# Altium footprint library Winbond.PcbLib: 18 footprints (part 1 of 2)
Each footprint in its own frame and in the unit in brackets; x right, y up, seen from the top. Pads: shape width x height; smd on the part's side, far side on the other; paste and mask are expansions set on the pad; w line width, h text height; cw(c..) or ccw(c..) is an arc to the next point about the centre after c.
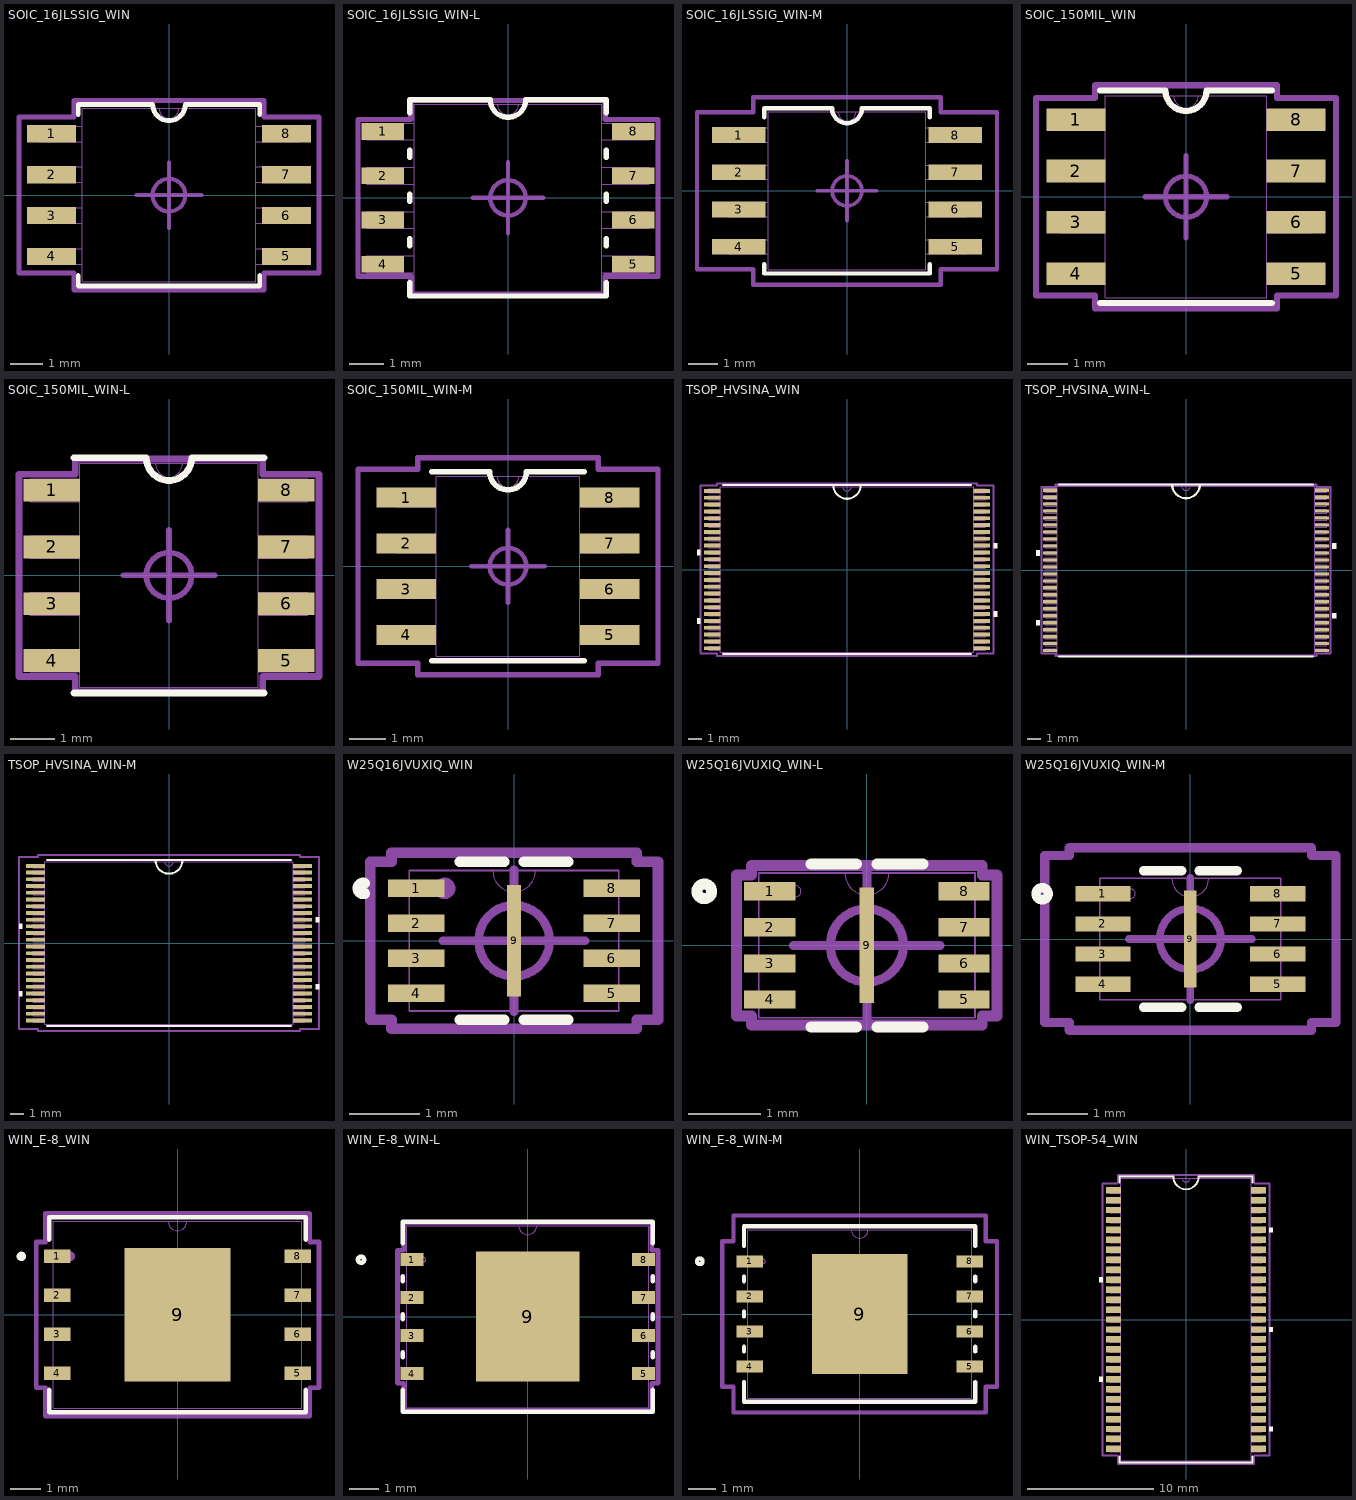
[diagram p0: the footprints below, top view; thin cyan lines are the x and y axes]

## SOIC_16JLSSIG_WIN [mil]
pads (8):
  rect 60x21 smd: 1(-143.5,75) 2(-143.5,25) 3(-143.5,-25) 4(-143.5,-75) 5(143.5,-75) 6(143.5,-25) 7(143.5,25) 8(143.5,75)
Top Overlay:
  lines w6: -111,-98.36 -111,-111 111,-111 111,-98.36 ; -111,98.36 -111,111 -20,111 ccw(c0,111) 20,111 111,111 111,98.36
Mechanical 13:
  lines w0: -12,106 ccw(c0,106) 12,106
  lines w1: -159.5,-84.5 -159.5,-65.5 -106,-65.5 -106,-84.5 -159.5,-84.5 ; -159.5,-34.5 -159.5,-15.5 -106,-15.5 -106,-34.5 -159.5,-34.5 ; -159.5,15.5 -159.5,34.5 -106,34.5 -106,15.5 -159.5,15.5 ; -159.5,65.5 -159.5,84.5 -106,84.5 -106,65.5 -159.5,65.5 ; -106,-106 106,-106 106,106 -106,106 -106,-106 ; 106,-84.5 106,-65.5 159.5,-65.5 159.5,-84.5 106,-84.5 ; 106,-34.5 106,-15.5 159.5,-15.5 159.5,-34.5 106,-34.5 ; 106,15.5 106,34.5 159.5,34.5 159.5,15.5 106,15.5 ; 106,65.5 106,84.5 159.5,84.5 159.5,65.5 106,65.5
Mechanical 15:
  circle w5: c0,0 r20
  lines w5: -40,0 40,0 ; 0,-40 0,40
  lines w6: -183.5,-95.5 -183.5,95.5 -116,95.5 -116,116 116,116 116,95.5 183.5,95.5 183.5,-95.5 116,-95.5 116,-116 -116,-116 -116,-95.5 -183.5,-95.5
3D body "SOIC_16JLSSIG_WIN.step": height 85.12, standoff 0, extent -159.49,-105.98 159.49,105.98

## SOIC_16JLSSIG_WIN-L [mil]
pads (8):
  rect 48x19 smd paste+0: 1(-141.5,75) 2(-141.5,25) 3(-141.5,-25) 4(-141.5,-75) 5(141.5,-75) 6(141.5,-25) 7(141.5,25) 8(141.5,75)
Top Overlay:
  lines w6: -111,-95.87 -111,-111 111,-111 111,-95.87 ; -111,-54.13 -111,-45.87 ; -111,-4.13 -111,4.13 ; -111,45.87 -111,54.13 ; -111,95.87 -111,111 -20,111 ccw(c0,111) 20,111 111,111 111,95.87 ; 111,-54.13 111,-45.87 ; 111,-4.13 111,4.13 ; 111,45.87 111,54.13
Mechanical 13:
  lines w0: -12,106 ccw(c0,106) 12,106
  lines w1: -159.5,-84.5 -106,-84.5 -106,-65.5 -159.5,-65.5 -159.5,-84.5 ; -159.5,-34.5 -106,-34.5 -106,-15.5 -159.5,-15.5 -159.5,-34.5 ; -159.5,15.5 -106,15.5 -106,34.5 -159.5,34.5 -159.5,15.5 ; -159.5,65.5 -106,65.5 -106,84.5 -159.5,84.5 -159.5,65.5 ; -106,-106 -106,106 106,106 106,-106 -106,-106 ; 106,-84.5 159.5,-84.5 159.5,-65.5 106,-65.5 106,-84.5 ; 106,-34.5 159.5,-34.5 159.5,-15.5 106,-15.5 106,-34.5 ; 106,15.5 159.5,15.5 159.5,34.5 106,34.5 106,15.5 ; 106,65.5 159.5,65.5 159.5,84.5 106,84.5 106,65.5
Mechanical 15:
  circle w5: c0,0 r20
  lines w5: -40,0 40,0 ; 0,-40 0,40
  lines w6: -169.5,-88.5 -110,-88.5 -110,-110 110,-110 110,-88.5 169.5,-88.5 169.5,88.5 110,88.5 110,110 -110,110 -110,88.5 -169.5,88.5 -169.5,-88.5
3D body "SOIC_16JLSSIG_WIN.step": height 85.12, standoff 0, extent -159.49,-105.98 159.49,105.98

## SOIC_16JLSSIG_WIN-M [mil]
pads (8):
  rect 72x21 smd: 1(-145.5,75) 2(-145.5,25) 3(-145.5,-25) 4(-145.5,-75) 5(145.5,-75) 6(145.5,-25) 7(145.5,25) 8(145.5,75)
Top Overlay:
  lines w6: -111,-98.6 -111,-111 111,-111 111,-98.6 ; -111,98.6 -111,111 -20,111 ccw(c0,111) 20,111 111,111 111,98.6
Mechanical 13:
  lines w0: -12,106 ccw(c0,106) 12,106
  lines w1: -159.5,-84.5 -106,-84.5 -106,-65.5 -159.5,-65.5 -159.5,-84.5 ; -159.5,-34.5 -106,-34.5 -106,-15.5 -159.5,-15.5 -159.5,-34.5 ; -159.5,15.5 -106,15.5 -106,34.5 -159.5,34.5 -159.5,15.5 ; -159.5,65.5 -106,65.5 -106,84.5 -159.5,84.5 -159.5,65.5 ; -106,-106 -106,106 106,106 106,-106 -106,-106 ; 106,-84.5 159.5,-84.5 159.5,-65.5 106,-65.5 106,-84.5 ; 106,-34.5 159.5,-34.5 159.5,-15.5 106,-15.5 106,-34.5 ; 106,15.5 159.5,15.5 159.5,34.5 106,34.5 106,15.5 ; 106,65.5 159.5,65.5 159.5,84.5 106,84.5 106,65.5
Mechanical 15:
  circle w5: c0,0 r20
  lines w5: -40,0 40,0 ; 0,-40 0,40
  lines w6: -201.5,-105.5 -126,-105.5 -126,-126 126,-126 126,-105.5 201.5,-105.5 201.5,105.5 126,105.5 126,126 -126,126 -126,105.5 -201.5,105.5 -201.5,-105.5
3D body "SOIC_16JLSSIG_WIN.step": height 85.12, standoff 0, extent -159.49,-105.98 159.49,105.98

## SOIC_150MIL_WIN [mil]
pads (8):
  rect 57.5x22 smd: 1(-107.25,75) 2(-107.25,25) 3(-107.25,-25) 4(-107.25,-75) 5(107.25,-75) 6(107.25,-25) 7(107.25,25) 8(107.25,75)
Top Overlay:
  lines w6: -83.5,-103.5 83.5,-103.5 ; -83.5,103.5 -20,103.5 ccw(c0,103.5) 20,103.5 83.5,103.5
Mechanical 13:
  lines w0: -12,98.5 ccw(c0,98.5) 12,98.5
  lines w1: -122,-85 -122,-65 -78.5,-65 -78.5,-85 -122,-85 ; -122,-35 -122,-15 -78.5,-15 -78.5,-35 -122,-35 ; -122,15 -122,35 -78.5,35 -78.5,15 -122,15 ; -122,65 -122,85 -78.5,85 -78.5,65 -122,65 ; -78.5,-98.5 78.5,-98.5 78.5,98.5 -78.5,98.5 -78.5,-98.5 ; 78.5,-85 78.5,-65 122,-65 122,-85 78.5,-85 ; 78.5,-35 78.5,-15 122,-15 122,-35 78.5,-35 ; 78.5,15 78.5,35 122,35 122,15 78.5,15 ; 78.5,65 78.5,85 122,85 122,65 78.5,65
Mechanical 15:
  circle w5: c0,0 r20
  lines w5: -40,0 40,0 ; 0,-40 0,40
  lines w6: -146,-96 -146,96 -88.5,96 -88.5,108.5 88.5,108.5 88.5,96 146,96 146,-96 88.5,-96 88.5,-108.5 -88.5,-108.5 -88.5,-96 -146,-96
3D body "SOIC_150MIL_WIN.step": height 69.09, standoff 0, extent -122.01,-98.5 122.01,98.5

## SOIC_150MIL_WIN-L [mil]
pads (8):
  rect 49.5x20 smd: 1(-103.25,75) 2(-103.25,25) 3(-103.25,-25) 4(-103.25,-75) 5(103.25,-75) 6(103.25,-25) 7(103.25,25) 8(103.25,75)
Top Overlay:
  lines w6: -83.5,-103.5 83.5,-103.5 ; -83.5,103.5 -20,103.5 ccw(c0,103.5) 20,103.5 83.5,103.5
Mechanical 13:
  lines w0: -12,98.5 ccw(c0,98.5) 12,98.5
  lines w1: -122,-85 -122,-65 -78.5,-65 -78.5,-85 -122,-85 ; -122,-35 -122,-15 -78.5,-15 -78.5,-35 -122,-35 ; -122,15 -122,35 -78.5,35 -78.5,15 -122,15 ; -122,65 -122,85 -78.5,85 -78.5,65 -122,65 ; -78.5,-98.5 78.5,-98.5 78.5,98.5 -78.5,98.5 -78.5,-98.5 ; 78.5,-85 78.5,-65 122,-65 122,-85 78.5,-85 ; 78.5,-35 78.5,-15 122,-15 122,-35 78.5,-35 ; 78.5,15 78.5,35 122,35 122,15 78.5,15 ; 78.5,65 78.5,85 122,85 122,65 78.5,65
Mechanical 15:
  circle w5: c0,0 r20
  lines w5: -40,0 40,0 ; 0,-40 0,40
  lines w6: -132,-89 -132,89 -82.5,89 -82.5,102.5 82.5,102.5 82.5,89 132,89 132,-89 82.5,-89 82.5,-102.5 -82.5,-102.5 -82.5,-89 -132,-89
3D body "SOIC_150MIL_WIN.step": height 69.09, standoff 0, extent -122.01,-98.5 122.01,98.5

## SOIC_150MIL_WIN-M [mil]
pads (8):
  rect 65.5x22 smd: 1(-111.25,75) 2(-111.25,25) 3(-111.25,-25) 4(-111.25,-75) 5(111.25,-75) 6(111.25,-25) 7(111.25,25) 8(111.25,75)
Top Overlay:
  lines w6: -83.5,-103.5 83.5,-103.5 ; -83.5,103.5 -20,103.5 ccw(c0,103.5) 20,103.5 83.5,103.5
Mechanical 13:
  lines w0: -12,98.5 ccw(c0,98.5) 12,98.5
  lines w1: -122,-85 -78.5,-85 -78.5,-65 -122,-65 -122,-85 ; -122,-35 -78.5,-35 -78.5,-15 -122,-15 -122,-35 ; -122,15 -78.5,15 -78.5,35 -122,35 -122,15 ; -122,65 -78.5,65 -78.5,85 -122,85 -122,65 ; -78.5,-98.5 -78.5,98.5 78.5,98.5 78.5,-98.5 -78.5,-98.5 ; 78.5,-85 122,-85 122,-65 78.5,-65 78.5,-85 ; 78.5,-35 122,-35 122,-15 78.5,-15 78.5,-35 ; 78.5,15 122,15 122,35 78.5,35 78.5,15 ; 78.5,65 122,65 122,85 78.5,85 78.5,65
Mechanical 15:
  circle w5: c0,0 r20
  lines w5: -40,0 40,0 ; 0,-40 0,40
  lines w6: -164,-106 -98.5,-106 -98.5,-118.5 98.5,-118.5 98.5,-106 164,-106 164,106 98.5,106 98.5,118.5 -98.5,118.5 -98.5,106 -164,106 -164,-106
3D body "SOIC_150MIL_WIN.step": height 69.09, standoff 0, extent -122.01,-98.5 122.01,98.5

## TSOP_HVSINA_WIN [mil]
pads (48):
  rect 47.5x11 smd: 1(-387.75,226.44) 2(-387.75,206.75) 3(-387.75,187.06) 4(-387.75,167.37) 5(-387.75,147.68) 6(-387.75,127.98) 7(-387.75,108.3) 8(-387.75,88.61) 9(-387.75,68.92) 10(-387.75,49.23) 11(-387.75,29.54) 12(-387.75,9.85) 13(-387.75,-9.85) 14(-387.75,-29.54) 15(-387.75,-49.23) 16(-387.75,-68.92) 17(-387.75,-88.61) 18(-387.75,-108.3) 19(-387.75,-127.98) 20(-387.75,-147.68) 21(-387.75,-167.37) 22(-387.75,-187.06) 23(-387.75,-206.75) 24(-387.75,-226.44) 25(387.75,-226.44) 26(387.75,-206.75) 27(387.75,-187.06) 28(387.75,-167.37) 29(387.75,-147.68) 30(387.75,-127.98) 31(387.75,-108.3) 32(387.75,-88.61) 33(387.75,-68.92) 34(387.75,-49.23) 35(387.75,-29.54) 36(387.75,-9.85) 37(387.75,9.85) 38(387.75,29.54) 39(387.75,49.23) 40(387.75,68.92) 41(387.75,88.61) 42(387.75,108.3) 43(387.75,127.98) 44(387.75,147.68) 45(387.75,167.37) 46(387.75,187.06) 47(387.75,206.75) 48(387.75,226.44)
Top Overlay:
  region: -421.5,56.73 -431.5,56.73 -431.5,41.73 -421.5,41.73
  region: -421.5,-140.18 -431.5,-140.18 -431.5,-155.18 -421.5,-155.18
  region: 421.5,-120.48 431.5,-120.48 431.5,-135.49 421.5,-135.49
  region: 421.5,76.42 431.5,76.42 431.5,61.41 421.5,61.41
  lines w6: -356.99,-243 356.99,-243 ; -356.99,243 356.99,243 ; -39.37,243 ccw(c0,243) 39.37,243
Mechanical 13:
  drawing of 197 lines, arcs and shapes, not listed
Mechanical 15:
  lines w6: -421.5,-241.94 -421.5,241.94 -374,241.94 -374,248 374,248 374,241.94 421.5,241.94 421.5,-241.94 374,-241.94 374,-248 -374,-248 -374,-241.94 -421.5,-241.94
3D body "TSOP_HVSINA_WIN.step": height 47.09, standoff 0, extent -397.52,-237.99 397.52,237.99

## TSOP_HVSINA_WIN-L [mil]
pads (48):
  rect 39.5x9 smd: 1(-383.75,226.44) 2(-383.75,206.75) 3(-383.75,187.06) 4(-383.75,167.37) 5(-383.75,147.68) 6(-383.75,127.98) 7(-383.75,108.3) 8(-383.75,88.61) 9(-383.75,68.92) 10(-383.75,49.23) 11(-383.75,29.54) 12(-383.75,9.85) 13(-383.75,-9.85) 14(-383.75,-29.54) 15(-383.75,-49.23) 16(-383.75,-68.92) 17(-383.75,-88.61) 18(-383.75,-108.3) 19(-383.75,-127.98) 20(-383.75,-147.68) 21(-383.75,-167.37) 22(-383.75,-187.06) 23(-383.75,-206.75) 24(-383.75,-226.44) 25(383.75,-226.44) 26(383.75,-206.75) 27(383.75,-187.06) 28(383.75,-167.37) 29(383.75,-147.68) 30(383.75,-127.98) 31(383.75,-108.3) 32(383.75,-88.61) 33(383.75,-68.92) 34(383.75,-49.23) 35(383.75,-29.54) 36(383.75,-9.85) 37(383.75,9.85) 38(383.75,29.54) 39(383.75,49.23) 40(383.75,68.92) 41(383.75,88.61) 42(383.75,108.3) 43(383.75,127.98) 44(383.75,147.68) 45(383.75,167.37) 46(383.75,187.06) 47(383.75,206.75) 48(383.75,226.44)
Top Overlay:
  region: 413.5,76.42 423.5,76.42 423.5,61.41 413.5,61.41
  region: 413.5,-120.48 423.5,-120.48 423.5,-135.49 413.5,-135.49
  region: -413.5,-140.18 -423.5,-140.18 -423.5,-155.18 -413.5,-155.18
  region: -413.5,56.73 -423.5,56.73 -423.5,41.73 -413.5,41.73
  lines w6: -358.9,-243 358.9,-243 ; -358.9,243 358.9,243 ; -39.37,243 ccw(c0,243) 39.37,243
Mechanical 13:
  drawing of 197 lines, arcs and shapes, not listed
Mechanical 15:
  lines w6: -407.5,-234.94 -368,-234.94 -368,-242 368,-242 368,-234.94 407.5,-234.94 407.5,234.94 368,234.94 368,242 -368,242 -368,234.94 -407.5,234.94 -407.5,-234.94
3D body "TSOP_HVSINA_WIN.step": height 47.09, standoff 0, extent -397.52,-237.99 397.52,237.99

## TSOP_HVSINA_WIN-M [mil]
pads (48):
  rect 55.5x11 smd: 1(-391.75,226.44) 2(-391.75,206.75) 3(-391.75,187.06) 4(-391.75,167.37) 5(-391.75,147.68) 6(-391.75,127.98) 7(-391.75,108.3) 8(-391.75,88.61) 9(-391.75,68.92) 10(-391.75,49.23) 11(-391.75,29.54) 12(-391.75,9.85) 13(-391.75,-9.85) 14(-391.75,-29.54) 15(-391.75,-49.23) 16(-391.75,-68.92) 17(-391.75,-88.61) 18(-391.75,-108.3) 19(-391.75,-127.98) 20(-391.75,-147.68) 21(-391.75,-167.37) 22(-391.75,-187.06) 23(-391.75,-206.75) 24(-391.75,-226.44) 25(391.75,-226.44) 26(391.75,-206.75) 27(391.75,-187.06) 28(391.75,-167.37) 29(391.75,-147.68) 30(391.75,-127.98) 31(391.75,-108.3) 32(391.75,-88.61) 33(391.75,-68.92) 34(391.75,-49.23) 35(391.75,-29.54) 36(391.75,-9.85) 37(391.75,9.85) 38(391.75,29.54) 39(391.75,49.23) 40(391.75,68.92) 41(391.75,88.61) 42(391.75,108.3) 43(391.75,127.98) 44(391.75,147.68) 45(391.75,167.37) 46(391.75,187.06) 47(391.75,206.75) 48(391.75,226.44)
Top Overlay:
  region: 429.5,76.42 439.5,76.42 439.5,61.41 429.5,61.41
  region: 429.5,-120.48 439.5,-120.48 439.5,-135.49 429.5,-135.49
  region: -429.5,-140.18 -439.5,-140.18 -439.5,-155.18 -429.5,-155.18
  region: -429.5,56.73 -439.5,56.73 -439.5,41.73 -429.5,41.73
  lines w6: -356.99,-243 356.99,-243 ; -356.99,243 356.99,243 ; -39.37,243 ccw(c0,243) 39.37,243
Mechanical 13:
  drawing of 197 lines, arcs and shapes, not listed
Mechanical 15:
  lines w6: -439.5,-251.94 -384,-251.94 -384,-258 384,-258 384,-251.94 439.5,-251.94 439.5,251.94 384,251.94 384,258 -384,258 -384,251.94 -439.5,251.94 -439.5,-251.94
3D body "TSOP_HVSINA_WIN.step": height 47.09, standoff 0, extent -397.52,-237.99 397.52,237.99

## W25Q16JVUXIQ_WIN [mil]
pads (9):
  rect 32x10 smd: 1(-55.06,29.53) 2(-55.06,9.84) 3(-55.06,-9.84) 4(-55.06,-29.53) 5(55.06,-29.53) 6(55.06,-9.84) 7(55.06,9.84) 8(55.06,29.53)
  rect 8x63 smd: 9(0,0)
Top Overlay:
  lines w6: -84.16,26.62 cw(c-84.9,29.53) -84.16,32.43 ; -30.56,-44.5 -5.62,-44.5 ; -30.56,44.5 -5.62,44.5 ; 5.62,-44.5 30.56,-44.5 ; 5.62,44.5 30.56,44.5
Mechanical 13:
  circle w6: c-39.06,29.53 r3
  lines w0: -12,39.5 ccw(c0,39.5) 12,39.5
  lines w1: -59,-39.5 -59,39.5 59,39.5 59,-39.5 -59,-39.5
Mechanical 15:
  circle w5: c0,0 r20
  lines w5: -40,0 40,0 ; 0,-40 0,40
  lines w6: -81.06,-44.53 -69,-44.53 -69,-49.5 69,-49.5 69,-44.53 81.06,-44.53 81.06,44.53 69,44.53 69,49.5 -69,49.5 -69,44.53 -81.06,44.53 -81.06,-44.53
3D body "W25Q16JVUXIQ_WIN.step": height 24.09, standoff 0, extent -59.06,-39.49 59.06,39.49

## W25Q16JVUXIQ_WIN-L [mil]
pads (9):
  rect 28x10 smd: 1(-53.06,29.53) 2(-53.06,9.84) 3(-53.06,-9.84) 4(-53.06,-29.53) 5(53.06,-29.53) 6(53.06,-9.84) 7(53.06,9.84) 8(53.06,29.53)
  rect 8x63 smd: 9(0,0)
Top Overlay:
  circle w6: c-88.74,29.53 r4
  lines w6: -30.56,-44.5 -5.62,-44.5 ; -30.56,44.5 -5.62,44.5 ; 5.62,-44.5 30.56,-44.5 ; 5.62,44.5 30.56,44.5
Mechanical 13:
  circle w0: c-39.06,29.53 r3
  lines w0: -12,39.5 ccw(c0,39.5) 12,39.5
  lines w1: -59,-39.5 -59,39.5 59,39.5 59,-39.5 -59,-39.5
Mechanical 15:
  circle w5: c0,0 r20
  lines w5: -40,0 40,0 ; 0,-40 0,40
  lines w6: -71.06,-38.53 -63,-38.53 -63,-43.5 63,-43.5 63,-38.53 71.06,-38.53 71.06,38.53 63,38.53 63,43.5 -63,43.5 -63,38.53 -71.06,38.53 -71.06,-38.53
3D body "W25Q16JVUXIQ_WIN.step": height 24.09, standoff 0, extent -59.06,-39.49 59.06,39.49

## W25Q16JVUXIQ_WIN-M [mil]
pads (9):
  rect 36x10 smd: 1(-57.06,29.53) 2(-57.06,9.84) 3(-57.06,-9.84) 4(-57.06,-29.53) 5(57.06,-29.53) 6(57.06,-9.84) 7(57.06,9.84) 8(57.06,29.53)
  rect 8x63 smd: 9(0,0)
Top Overlay:
  circle w6: c-96.74,29.53 r4
  lines w6: -30.56,-44.5 -5.62,-44.5 ; -30.56,44.5 -5.62,44.5 ; 5.62,-44.5 30.56,-44.5 ; 5.62,44.5 30.56,44.5
Mechanical 13:
  circle w0: c-39.06,29.53 r3
  lines w0: -12,39.5 ccw(c0,39.5) 12,39.5
  lines w1: -59,-39.5 -59,39.5 59,39.5 59,-39.5 -59,-39.5
Mechanical 15:
  circle w5: c0,0 r20
  lines w5: -40,0 40,0 ; 0,-40 0,40
  lines w6: -95.06,-54.53 -79,-54.53 -79,-59.5 79,-59.5 79,-54.53 95.06,-54.53 95.06,54.53 79,54.53 79,59.5 -79,59.5 -79,54.53 -95.06,54.53 -95.06,-54.53
3D body "W25Q16JVUXIQ_WIN.step": height 24.09, standoff 0, extent -59.06,-39.49 59.06,39.49

## WIN_E-8_WIN [mil]
pads (9):
  rect 34x17 smd: 1(-154.5,75) 2(-154.5,25) 3(-154.5,-25) 4(-154.5,-75) 5(154.5,-75) 6(154.5,-25) 7(154.5,25) 8(154.5,75)
  rect 136x171 smd: 9(0,0)
Top Overlay:
  circle w6: c-200.5,75 r3
  lines w6: -164.5,-96.6 -164.5,-125 164.5,-125 164.5,-96.6 ; -164.5,96.6 -164.5,125 164.5,125 164.5,96.6
Top Paste:
  region: -3.94,81.56 -64.06,81.56 -64.06,32.44 -3.94,32.44
  region: -3.94,24.56 -64.06,24.56 -64.06,-24.56 -3.94,-24.56
  region: -3.94,-32.44 -64.06,-32.44 -64.06,-81.56 -3.94,-81.56
  region: 64.06,81.56 3.94,81.56 3.94,32.44 64.06,32.44
  region: 64.06,24.56 3.94,24.56 3.94,-24.56 64.06,-24.56
  region: 64.06,-32.44 3.94,-32.44 3.94,-81.56 64.06,-81.56
Mechanical 13:
  circle w6: c-137.5,75 r3
  lines w0: -12,120 ccw(c0,120) 12,120
  lines w1: -159.5,-120 159.5,-120 159.5,120 -159.5,120 -159.5,-120
Mechanical 15:
  circle w5: c0,0 r20
  lines w5: -40,0 40,0 ; 0,-40 0,40
  lines w6: -181.5,-93.5 -181.5,93.5 -169.5,93.5 -169.5,130 169.5,130 169.5,93.5 181.5,93.5 181.5,-93.5 169.5,-93.5 169.5,-130 -169.5,-130 -169.5,-93.5 -181.5,-93.5
3D body "WIN_E-8_WIN.step": height 31.1, standoff 0, extent -159.49,-120 159.49,120

## WIN_E-8_WIN-L [mil]
pads (9):
  rect 30x17 smd: 1(-152.5,75) 2(-152.5,25) 3(-152.5,-25) 4(-152.5,-75) 5(152.5,-75) 6(152.5,-25) 7(152.5,25) 8(152.5,75)
  rect 136x171 smd: 9(0,0)
Top Overlay:
  circle w6: c-219.5,75 r4
  lines w6: -164.5,-96.6 -164.5,-125 164.5,-125 164.5,-96.6 ; -164.5,-53.4 -164.5,-46.6 ; -164.5,-3.4 -164.5,3.4 ; -164.5,46.6 -164.5,53.4 ; -164.5,96.6 -164.5,125 164.5,125 164.5,96.6 ; 164.5,-53.4 164.5,-46.6 ; 164.5,-3.4 164.5,3.4 ; 164.5,46.6 164.5,53.4
Top Paste:
  region: -3.94,81.56 -64.06,81.56 -64.06,32.44 -3.94,32.44
  region: -3.94,24.56 -64.06,24.56 -64.06,-24.56 -3.94,-24.56
  region: -3.94,-32.44 -64.06,-32.44 -64.06,-81.56 -3.94,-81.56
  region: 64.06,81.56 3.94,81.56 3.94,32.44 64.06,32.44
  region: 64.06,24.56 3.94,24.56 3.94,-24.56 64.06,-24.56
  region: 64.06,-32.44 3.94,-32.44 3.94,-81.56 64.06,-81.56
Mechanical 13:
  circle w0: c-137.5,75 r3
  lines w0: -12,120 ccw(c0,120) 12,120
  lines w1: -159.5,-120 159.5,-120 159.5,120 -159.5,120 -159.5,-120
Mechanical 15:
  circle w5: c0,0 r20
  lines w5: -40,0 40,0 ; 0,-40 0,40
  lines w6: -171.5,-87.5 -171.5,87.5 -163.5,87.5 -163.5,124 163.5,124 163.5,87.5 171.5,87.5 171.5,-87.5 163.5,-87.5 163.5,-124 -163.5,-124 -163.5,-87.5 -171.5,-87.5
3D body "WIN_E-8_WIN.step": height 31.1, standoff 0, extent -159.49,-120 159.49,120

## WIN_E-8_WIN-M [mil]
pads (9):
  rect 38x17 smd: 1(-156.5,75) 2(-156.5,25) 3(-156.5,-25) 4(-156.5,-75) 5(156.5,-75) 6(156.5,-25) 7(156.5,25) 8(156.5,75)
  rect 136x171 smd: 9(0,0)
Top Overlay:
  circle w6: c-227.5,75 r4
  lines w6: -164.5,-96.6 -164.5,-125 164.5,-125 164.5,-96.6 ; -164.5,-53.4 -164.5,-46.6 ; -164.5,-3.4 -164.5,3.4 ; -164.5,46.6 -164.5,53.4 ; -164.5,96.6 -164.5,125 164.5,125 164.5,96.6 ; 164.5,-53.4 164.5,-46.6 ; 164.5,-3.4 164.5,3.4 ; 164.5,46.6 164.5,53.4
Top Paste:
  region: 64.06,-32.44 3.94,-32.44 3.94,-81.56 64.06,-81.56
  region: 64.06,24.56 3.94,24.56 3.94,-24.56 64.06,-24.56
  region: 64.06,81.56 3.94,81.56 3.94,32.44 64.06,32.44
  region: -3.94,-32.44 -64.06,-32.44 -64.06,-81.56 -3.94,-81.56
  region: -3.94,24.56 -64.06,24.56 -64.06,-24.56 -3.94,-24.56
  region: -3.94,81.56 -64.06,81.56 -64.06,32.44 -3.94,32.44
Mechanical 13:
  circle w0: c-137.5,75 r3
  lines w0: -12,120 ccw(c0,120) 12,120
  lines w1: -159.5,-120 -159.5,120 159.5,120 159.5,-120 -159.5,-120
Mechanical 15:
  circle w5: c0,0 r20
  lines w5: -40,0 40,0 ; 0,-40 0,40
  lines w6: -195.5,-103.5 -179.5,-103.5 -179.5,-140 179.5,-140 179.5,-103.5 195.5,-103.5 195.5,103.5 179.5,103.5 179.5,140 -179.5,140 -179.5,103.5 -195.5,103.5 -195.5,-103.5
3D body "WIN_E-8_WIN.step": height 31.1, standoff 0, extent -159.49,-120 159.49,120

## WIN_TSOP-54_WIN [mil]
pads (54):
  rect 47x20 smd: 1(-226,403) 2(-226,372) 3(-226,341) 4(-226,310) 5(-226,279) 6(-226,248) 7(-226,217) 8(-226,186) 9(-226,155) 10(-226,124) 11(-226,93) 12(-226,62) 13(-226,31) 14(-226,0) 15(-226,-31) 16(-226,-62) 17(-226,-93) 18(-226,-124) 19(-226,-155) 20(-226,-186) 21(-226,-217) 22(-226,-248) 23(-226,-279) 24(-226,-310) 25(-226,-341) 26(-226,-372) 27(-226,-403) 28(226,-403) 29(226,-372) 30(226,-341) 31(226,-310) 32(226,-279) 33(226,-248) 34(226,-217) 35(226,-186) 36(226,-155) 37(226,-124) 38(226,-93) 39(226,-62) 40(226,-31) 41(226,0) 42(226,31) 43(226,62) 44(226,93) 45(226,124) 46(226,155) 47(226,186) 48(226,217) 49(226,248) 50(226,279) 51(226,310) 52(226,341) 53(226,372) 54(226,403)
Top Overlay:
  region: 259.5,286.5 269.5,286.5 269.5,271.5 259.5,271.5
  region: 259.5,-23.5 269.5,-23.5 269.5,-38.5 259.5,-38.5
  region: 259.5,-333.5 269.5,-333.5 269.5,-348.5 259.5,-348.5
  region: -259.5,-178.5 -269.5,-178.5 -269.5,-193.5 -259.5,-193.5
  region: -259.5,131.5 -269.5,131.5 -269.5,116.5 -259.5,116.5
  lines w6: -207.5,-426.1 -207.5,-445 207.5,-445 207.5,-426.1 ; -207.5,426.1 -207.5,445 -39.37,445 ccw(c0,445) 39.37,445 207.5,445 207.5,426.1
Mechanical 13:
  drawing of 221 lines, arcs and shapes, not listed
Mechanical 15:
  lines w6: -259.5,-423 -212.5,-423 -212.5,-450 212.5,-450 212.5,-423 259.5,-423 259.5,423 212.5,423 212.5,450 -212.5,450 -212.5,423 -259.5,423 -259.5,-423
3D body "WIN_TSOP-54_WIN.step": height 47.09, standoff 0, extent -235.51,-440 235.51,440